# EAGLE library part TPA3137D2 (library SparkFun-IC-Amplifiers)
6W Class D audio amplifier (Stereo)
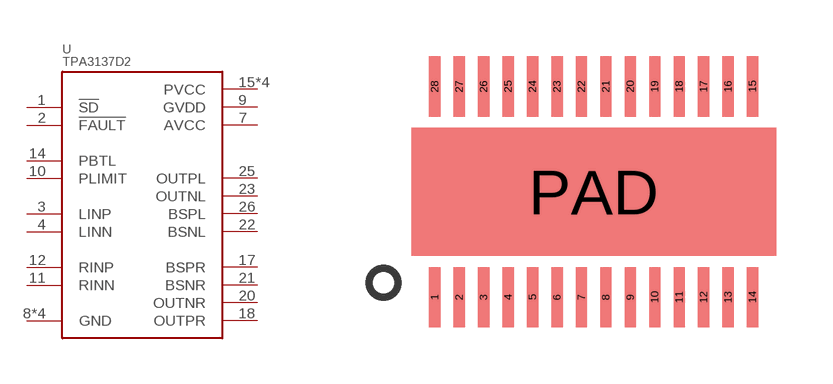
[diagram p1: symbol with the pads of SSOP28_PAD; footprint SSOP28_PAD]

Designator prefix U

## TPA3137D2  [SSOP28_PAD]
1  !SD
2  !FAULT
3  LINP
4  LINN
7  AVCC
8  GND
9  GVDD
10  PLIMIT
11  RINN
12  RINP
14  PBTL
15  PVCC
16  PVCC
17  BSPR
18  OUTPR
19  GND
20  OUTNR
21  BSNR
22  BSNL
23  OUTNL
24  GND
25  OUTPL
26  BSPL
27  PVCC
28  PVCC
PAD  GND

## Footprint SSOP28_PAD (pad centres in mm)
smd 0.3 x 1.6: 1 -4.225,-2.8; 2 -3.575,-2.8; 3 -2.925,-2.8; 4 -2.275,-2.8; 5 -1.625,-2.8; 6 -0.975,-2.8; 7 -0.325,-2.8; 8 0.325,-2.8; 9 0.975,-2.8; 10 1.625,-2.8; 11 2.275,-2.8; 12 2.925,-2.8; 13 3.575,-2.8; 14 4.225,-2.8; 15 4.225,2.8; 16 3.575,2.8; 17 2.925,2.8; 18 2.275,2.8; 19 1.625,2.8; 20 0.975,2.8; 21 0.325,2.8; 22 -0.325,2.8; 23 -0.975,2.8; 24 -1.625,2.8; 25 -2.275,2.8; 26 -2.925,2.8; 27 -3.575,2.8; 28 -4.225,2.8
smd 9.7 x 3.4: PAD 0,0